# Altium footprint library SparkFun-Passives.PCBLIB: 100 footprints (part 7 of 7)
Each footprint in its own frame and in the unit in brackets; x right, y up, seen from the top. Pads: shape width x height; smd on the part's side, far side on the other; paste and mask are expansions set on the pad; w line width, h text height; cw(c..) or ccw(c..) is an arc to the next point about the centre after c.
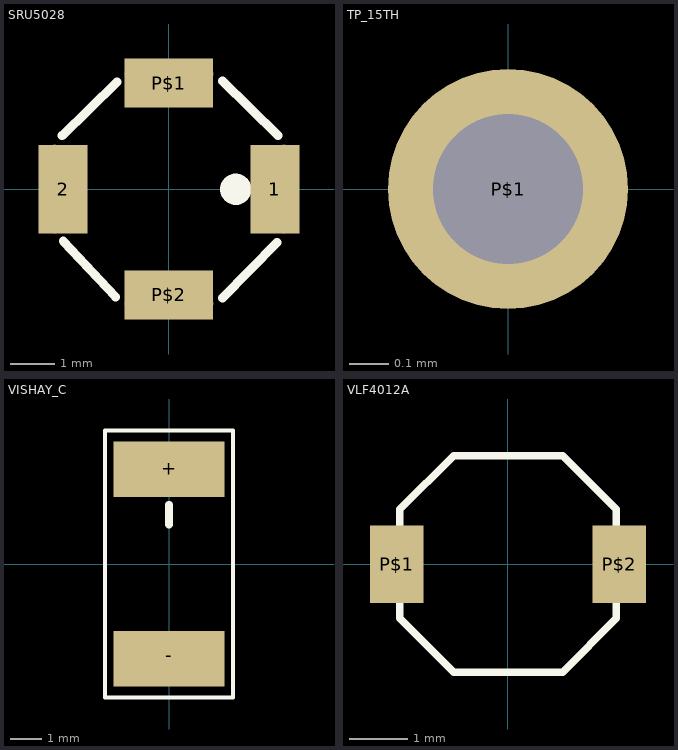
[diagram p6: the footprints below, top view; thin cyan lines are the x and y axes]

## SRU5028 [mil]
pads (4):
  rect 44x79 smd: 1(95,0) 2(-94.49,0)
  rect 79x44 smd: P$1(0,95) P$2(0,-94.49)
Top Overlay:
  circle w16: c60,0 r6
  lines w8: -95.36,48 -46.43,96 ; -94.36,-46.43 -47.43,-96.36 ; 48,-97.36 97,-47.43 ; 48,97 98,48
Mechanical 2:
  text ">NAME" at -100,125 h24.8
Mechanical 4:
  text ">VALUE" at -100,-150 h24.8
Mechanical 16:
  lines w8: -102.36,-35.43 -102.36,36 ; -35.43,-102.36 36,-102.36 ; -35.43,103 36,103 ; 103,-35.43 103,36

## TP_15TH [mil]
pads (1):
  round 24 hole 15: P$1(0,0)
Bottom Solder:
  circle w0: c0,0 r15

## VISHAY_C [mil]
pads (2):
  rect 140x70 smd: +(0,120) -(0,-120)
Top Overlay:
  lines w5: -81,-169 -81,169 81,169 81,-169 -81,-169
  lines w10: 0,50 0,75
Mechanical 2:
  text ">NAME" at -75,175 h24.8
Mechanical 4:
  text ">VALUE" at -75,-200 h24.8

## VLF4012A [mil]
pads (2):
  rect 36x52 smd: P$1(-74.8,0) P$2(75,0)
Top Overlay:
  lines w5: -72.83,-36.42 -36.42,-72.83 37,-72.83 73,-36.42 73,37 37,73 -36.42,73 -72.83,37 -72.83,-36.42